# Altium schematic symbol library Fuses.SchLib: 2 symbols
Pins are listed as number, name and electrical type; pins without a type are passive.

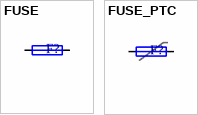
[diagram p0: symbols FUSE to FUSE_PTC]

## FUSE
designator F?
pins: 1, 2

## FUSE_PTC
designator F?
pins: 1, 2